# EAGLE library part MAX3221 (library xess)
RS-232 Transceiver
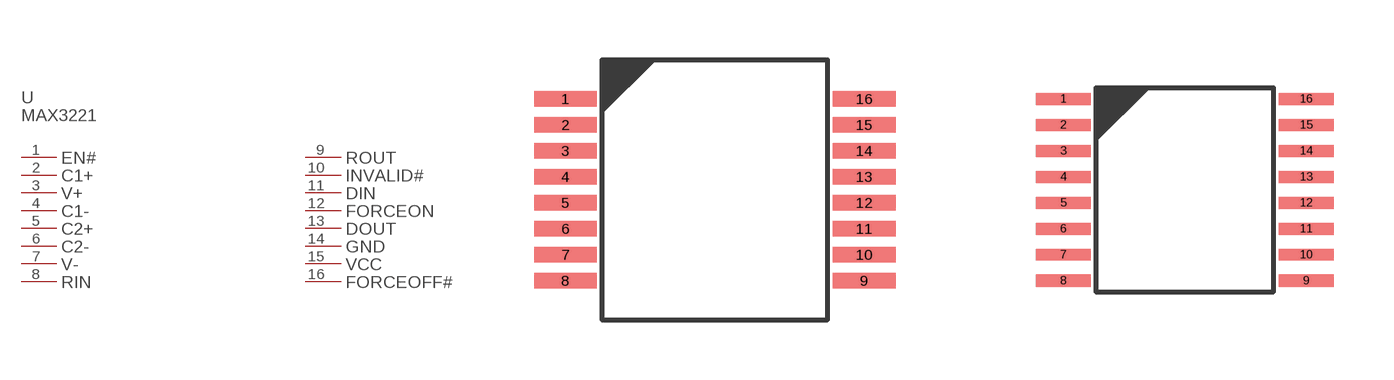
[diagram p65: symbol with the pads of MAX3221DB; footprints MAX3221DB, MAX3221PW]

Designator prefix U; gates PART_VALUE=PART_VALUE-MAX3221 EN#=PL-MAX3221 C1+=PL-MAX3221 V+=PL-MAX3221 C1-=PL-MAX3221 C2+=PL-MAX3221 C2-=PL-MAX3221 V-=PL-MAX3221 RIN=PL-MAX3221 ROUT=PL-MAX3221 INVALID#=PL-MAX3221 DIN=PL-MAX3221 FORCEON=PL-MAX3221 DOUT=PL-MAX3221 GND=PL-MAX3221 VCC=PL-MAX3221 FORCEOFF#=PL-MAX3221

## MAX3221DB  [MAX3221DB]
1  EN#:P$1
2  C1+:P$1
3  V+:P$1
4  C1-:P$1
5  C2+:P$1
6  C2-:P$1
7  V-:P$1
8  RIN:P$1
9  ROUT:P$1
10  INVALID#:P$1
11  DIN:P$1
12  FORCEON:P$1
13  DOUT:P$1
14  GND:P$1
15  VCC:P$1
16  FORCEOFF#:P$1

## MAX3221PW  [MAX3221PW]
Pads as for MAX3221DB

## Footprint MAX3221DB (pad centres in mm)
smd 1.57 x 0.38: 1 -0.11,0; 2 -0.11,-0.65; 3 -0.11,-1.3; 4 -0.11,-1.95; 5 -0.11,-2.6; 6 -0.11,-3.25; 7 -0.11,-3.9; 8 -0.11,-4.55; 9 7.36,-4.55; 10 7.36,-3.9; 11 7.36,-3.25; 12 7.36,-2.6; 13 7.36,-1.95; 14 7.36,-1.3; 15 7.36,-0.65; 16 7.36,0

## Footprint MAX3221PW (pad centres in mm)
smd 1.37 x 0.3: 1 -0.11,0; 2 -0.11,-0.65; 3 -0.11,-1.3; 4 -0.11,-1.95; 5 -0.11,-2.6; 6 -0.11,-3.25; 7 -0.11,-3.9; 8 -0.11,-4.55; 9 5.96,-4.55; 10 5.96,-3.9; 11 5.96,-3.25; 12 5.96,-2.6; 13 5.96,-1.95; 14 5.96,-1.3; 15 5.96,-0.65; 16 5.96,0